# Altium footprint library PVQFN-16.PcbLib: 1 footprints
Each footprint in its own frame and in the unit in brackets; x right, y up, seen from the top. Pads: shape width x height; smd on the part's side, far side on the other; paste and mask are expansions set on the pad; w line width, h text height; cw(c..) or ccw(c..) is an arc to the next point about the centre after c.
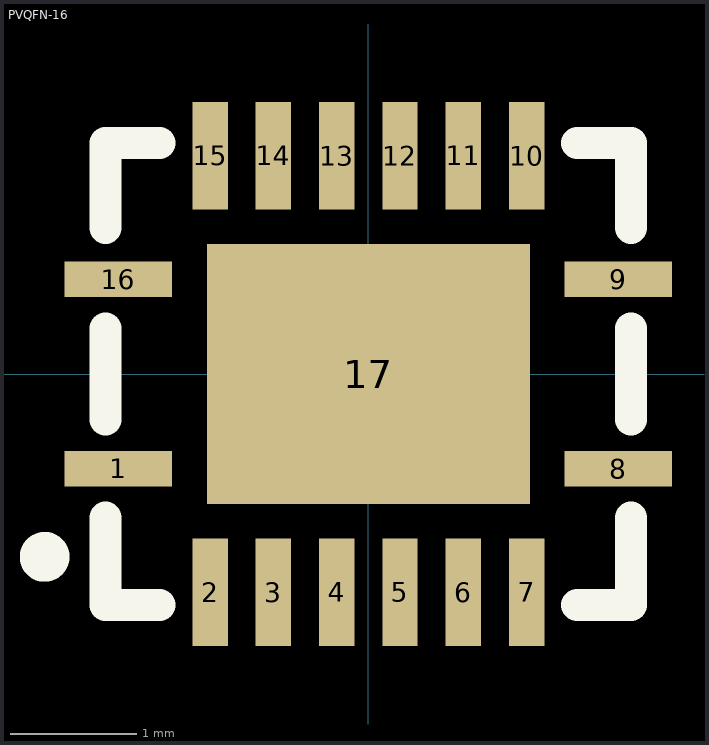
[diagram p0: the footprint, top view; thin cyan lines are the x and y axes]

## PVQFN-16 [mm]
pads (17):
  rect 0.85x0.28 smd mask+0.051: 1(-1.975,-0.75) 8(1.975,-0.75) 9(1.975,0.75) 16(-1.975,0.75)
  rect 0.28x0.85 smd mask+0.051: 2(-1.25,-1.725) 3(-0.75,-1.725) 4(-0.25,-1.725) 5(0.25,-1.725) 6(0.75,-1.725) 7(1.25,-1.725) 10(1.25,1.725) 11(0.75,1.725) 12(0.25,1.725) 13(-0.25,1.725) 14(-0.75,1.725) 15(-1.25,1.725)
  rect 2.55x2.05 smd mask+0.076: 17(0,0)
Top Overlay:
  circle w0.254: c-2.557,-1.444 r0.07
  lines w0.254: -2.075,-1.135 -2.075,-1.825 -1.65,-1.825 ; -2.075,-0.36 -2.075,0.36 ; -2.075,1.155 -2.075,1.825 -1.65,1.825 ; 1.65,-1.825 2.075,-1.825 2.075,-1.135 ; 1.65,1.825 2.075,1.825 2.075,1.155 ; 2.075,-0.36 2.075,0.36
3D body: height 1, standoff 0, extent -2.075,-1.825 2.075,1.825